# Altium schematic symbol library ESDA5V3SC6.SchLib: 1 symbol
Pins are listed as number, name and electrical type; pins without a type are passive.

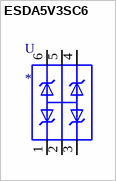
[diagram p0: symbol ESDA5V3SC6]

## ESDA5V3SC6
designator U
Clamp Ipp Tvs Diode Surface Mount SOT-23-6; MP: ESDA5V3SC6; MF: STMicroelectronics; SnapEDA_Link: https://www.snapeda.com/parts/ESDA5V3SC6/STMicroelectronics/view-part/385392/?ref=snap; Availability: Unavailable; Price: None; Package: SOT-23-6 STMicroelectronics; Value: *
footprint SOT23-6L
pins: 1 K1 (io), 2 A1 (io), 3 K2 (io), 4 K3 (io), 5 A2 (io), 6 K4 (io)